# Altium integrated library All_Library1.IntLib: 123 symbols (part 1 of 2)
Pins are listed as number, name and electrical type; pins without a type are passive.

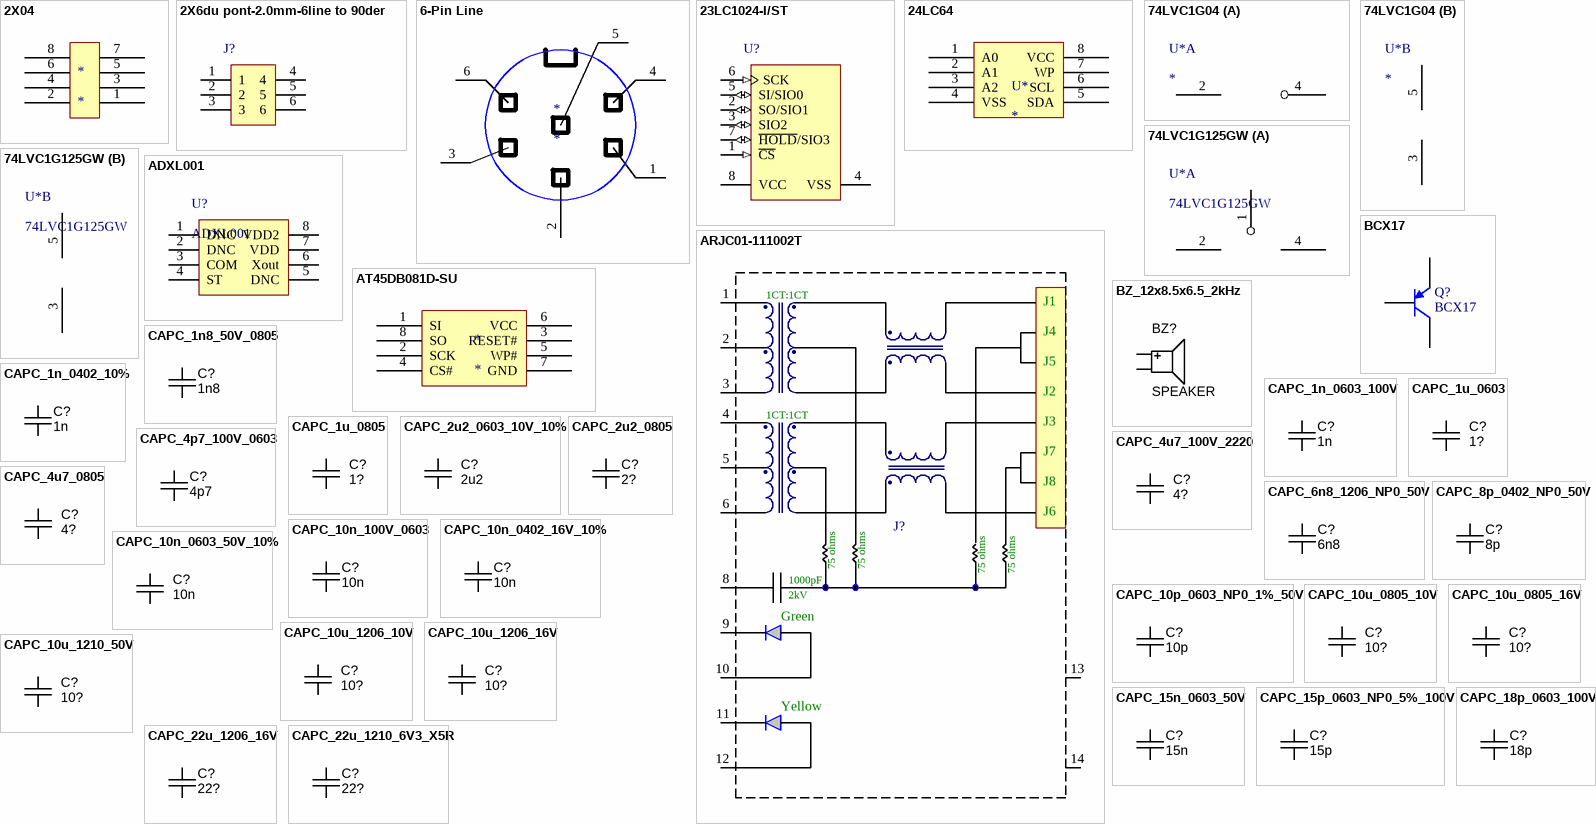
[diagram p0: symbols 2X04 to CAPC_22u_1210_6V3_X5R]

## 2X04
designator *
pins: 1, 2, 3, 4, 5, 6, 7, 8

## 2X6du pont-2.0mm-6line to 90der
designator J?  (value not drawn)
footprint HDR2X3 - duplicate-6-line 90 der
pins: 1, 2, 3, 4, 5, 6

## 6-Pin Line
designator *
footprint 6-pin line
pins: 1, 2, 3, 4, 5, 6

## 23LC1024-I/ST
designator U?
1024K bits SPI Serial SRAM with SDI and SQI Interface, 2.5 to 5.5 V, 20 MHz, -40 to 85 degC, 8-pin TSSOP (ST8), Tube; Manufacturer: Microchip; PartNumber: 23LC1024-I/ST; DatasheetVersion: Rev. A; PackageVersion: C04-086B; PackageReference: TSSOP-ST8; PackageDescription: 8-Lead Plastic Thin Shrink Small Outline, 3 x 4.4 mm Body, 0.65 mm Pitch; Supplier 1: Digi-Key; Supplier Part Number 1: 23LC1024-I/ST-ND; Supplier 2: Farnell; Supplier Part Number 2: 2212151; Supplier 3: Newark; Supplier Part Number 3: 94T8232; Supplier 4: Newark; Supplier Part Number 4: 45W1402; Supplier 5: Mouser; Supplier Part Number 5: 579-23LC1024-I/ST; Mounting Technology: Surface Mount; ComponentLink1Description: Manufacturer URL; ComponentLink1URL: http://www.microchip.com; ComponentLink2Description: Datasheet; ComponentLink2URL: http://ww1.microchip.com/downloads/en/DeviceDoc/25142A.pdf; ComponentLink3Description: Package Specification; ComponentLink3URL: http://www.microchip.com/stellent/groups/techpub_sg/documents/packagingspec/en012702.pdf; ComponentLink4Description: Product URL; ComponentLink4URL: http://www.microchip.com/23LC1024
footprint MCHP-TSSOP-ST8_N (SOP, 8-Leads, Body 4.4x3mm, Pitch 0.65mm, IPC Medium Density)
footprint MCHP-TSSOP-ST8_L (SOP, 8-Leads, Body 4.4x3mm, Pitch 0.65mm, IPC High Density)
footprint MCHP-TSSOP-ST8_M (SOP, 8-Leads, Body 4.4x3mm, Pitch 0.65mm, IPC Low Density)
pins: 1 ~{CS} (in) "Chip Select Input", 2 SO/SIO1 (io) "Serial Output/SDI/SQI Pin", 3 SIO2 (io) "SQI Pin", 4 VSS (power) "Ground", 5 SI/SIO0 (io) "Serial Input/SDI/SQI Pin", 6 SCK (in) "Serial Clock", 7 ~{HOLD}/SIO3 (io) "Hold/SQI Pin", 8 VCC (power) "Power Supply"

## 24LC64
designator U*
footprint TSSOP-ST8_M (TSOP, 8-Leads, Body 3x4.4mm, Pitch 0.65mm, IPC Low Density)
pins: 1 A0, 2 A1, 3 A2, 4 VSS, 5 SDA, 6 SCL, 7 WP, 8 VCC

## 74LVC1G04
designator U*
footprint SC70-LT5_N (SOT353, 5-Leads, Body 2x1.3mm, Pitch 0.65mm, Lead Span 2.1mm, IPC Medium Density)
part A pins: 2, 4
part B pins: 3 GND, 5 VCC

## 74LVC1G125GW
designator U*
footprint SC70-LT5_N (SOT353, 5-Leads, Body 2x1.3mm, Pitch 0.65mm, Lead Span 2.1mm, IPC Medium Density)
part A pins: 1 ~{OE}, 2 A, 4 Y
part B pins: 3 GND, 5 VCC

## ADXL001
designator U?
ADXL001-70BEZ ±70 g 8-Terminal LCC
footprint LCC8 - Special
pins: 1 DNC, 2 DNC, 3 COM, 4 ST, 5 DNC, 6 Xout, 7 VDD, 8 VDD2

## ARJC01-111002T
designator J?
10/100 Base-Tx Tap Up RJ45 with LED
footprint ARJC01-111002T
pins: 1 TD+, 2 CTD, 3 TD-, 4 RD+, 5 CRD, 6 RD-, 8 Shield, 9, 10, 11, 12, 13 GND, 14 GND
text: 1CT:1CT; J1; J4; J5; J2; J3; J7; J8; J6; 75 ohms; 1000pF; 2kV; Green; Yellow

## AT45DB081D-SU
designator *
footprint TSSOP-ST8_N (TSOP, 8-Leads, Body 3x4.4mm, Pitch 0.65mm, IPC Medium Density)
pins: 1 SI, 2 SCK, 3 RESET#, 4 CS#, 5 WP#, 6 VCC, 7 GND, 8 SO

## BCX17
designator Q?
PNP General Purpose Transistors; Published: 8-Jun-2000; LatestRevisionDate: 15-Jan-2003; LatestRevisionNote: PCB Footprint 'BCY-W3/D4.7' replaced; DatasheetVersion: 1997; PackageVersion: Sep-1998; PackageReference: TO-92A; Publisher: Altium Limited; PackageDescription: TO, Flat Index; 3 In-Line, Axial Leads; Body Dia. 4.5mm; Leads 0.51 x 0.48 mm (max); ComponentLink1Description: Manufacturer Link; ComponentLink1URL: http://www.fairchildsemi.com/; ComponentLink2Description: Datasheet; ComponentLink2URL: http://www.fairchildsemi.com/ds/2N%2F2N3906.pdf
footprint SOT23-3N (SOT23, 3-Leads, Body 2.9x1.3mm, Pitch 0.95mm, Lead Span 2.5mm, IPC Medium Density)
pins: 1 B, 2 E, 3 C

## BZ_12x8.5x6.5_2kHz
designator BZ?, comment Manufacturer Part Number 1: SPEAKER  (hidden comment: Alternate part: 3100-932)
Speaker, Magnetic Transducer; Manufacturer 1: CUI Inc; Ratings: 2048 ?00 Hz; Package / Case: 6.5mm pitch; Material: Noryl SE1-J; Supplier 1: Digi-Key; Supplier Part Number 1: 102-1152-ND
footprint BUZZER_12.0X8.5MM
pins: 1 Positive, 2 Negative

## CAPC_1n8_50V_0805
designator C?, comment value 1n8  (hidden comment: approved sub OK)
Capacitor SMD Cer 1.8nF 10% 50V X7R 0805; Manufacturer 1: AVX Corporation; Manufacturer Part Number 1: 08055C182KAT2A; Tolerance: ?0%; Ratings: 50V; X7R; Operating Temperature: -55蚓 ~ 125蚓; Package / Case: 0805 (2012 metric); Supplier 1: Digi-Key; Supplier Part Number 1: 478-1374-1-ND
footprint CAPC2012N (Chip Capacitor, Body 2.0x1.2mm, 0805, IPC Medium Density)
pins: 1, 2

## CAPC_1n_0402_10%
designator C?, comment 1n
Capacitor SMD Cer 1nF 10% 16V X7R 0402; Manufacturer 1: AVX Corporation; Manufacturer Part Number 1: 0402YC102KAT2A; Tolerance: ?0%; Ratings: 16V; X7R; Operating Temperature: -55蚓 ~ 125蚓; Package / Case: 0402 (1005 Metric); Size / Dimension: 0.039" L x 0.020" W (1.00mm x 0.50mm); Manufacturer 2: Yageo; Manufacturer Part Number 2: CC0402KRX7R7BB102; Supplier 1: Digi-Key; Supplier Part Number 1: 478-6197-1-ND; ComponentLink1URL: http://www.avx.com/docs/Catalogs/cx7r.pdf; ComponentLink1Description: http://www.avx.com/docs/Catalogs/cx7r.pdf; Supplier 2: Digi-Key; Supplier Part Number 2: 311-1352-1-ND; ComponentLink2URL: http://www.yageo.com/documents/recent/UPY-GPHC_X7R_6.3V-to-50V_8.pdf; ComponentLink2Description: http://www.yageo.com/documents/recent/UPY-GPHC_X7R_6.3V-to-50V_8.pdf; Value: 1n
footprint CAPC1005N (Chip Capacitor, Body 1.0x0.5mm, 0402, IPC Medium Density)
footprint CAPC1005L (Chip Capacitor, Body 1.0x0.5mm, IPC High Density)
pins: 1, 2

## CAPC_1n_0603_100V
designator C?, comment value 1n  (hidden comment: approved sub OK)
Capacitor SMD Cer 1nF 10% 100V X7R 0603; Manufacturer 1: Murata Electronics North America; Manufacturer Part Number 1: GCM188R72A102KA37D; Tolerance: ?0%; Ratings: 100V; X7R; Material: ceramic; Package / Case: 0603 (1608 metric); Supplier 1: Digi-Key; Supplier Part Number 1: 490-4780-1-ND; Operating Temperature: -55蚓 ~ 125蚓; Size / Dimension: 0.063" L x 0.031" W (1.60mm x 0.80mm); Thickness (Max): 0.035" (0.90mm); ComponentLink1URL: http://search.murata.co.jp/Ceramy/image/img/PDF/ENG/GCM188R72A102KA37.pdf; ComponentLink1Description: http://search.murata.co.jp/Ceramy/image/img/PDF/ENG/GCM188R72A102KA37.pdf
footprint CAPC1608N (Chip Capacitor, Body 1.6x0.8mm, 0603, IPC Medium Density)
pins: 1, 2

## CAPC_1u_0603
designator C?, comment value 1?  (hidden comment: approved sub OK)
Capacitor SMD Cer 1uF 10% 16V X7R 0603; Manufacturer 1: TDK Corporation; Manufacturer Part Number 1: C1608X7R1C105K; Tolerance: ?0%; Ratings: 16V; X7R; Material: ceramic; Package / Case: 0603 (1608 metric); Supplier 1: Digi-Key; Supplier Part Number 1: 445-1604-1-ND
footprint CAPC1608N (Chip Capacitor, Body 1.6x0.8mm, IPC Medium Density)
pins: 1, 2

## CAPC_1u_0805
designator C?, comment value 1?  (hidden comment: approved sub OK)
Capacitor SMD Cer 1uF 10% 16V X7R 0805; Manufacturer 1: TDK Corporation; Manufacturer Part Number 1: C2012X7R1C105K/1.25; Tolerance: ?0%; Ratings: 16V; X7R; Material: ceramic; Package / Case: 0805 (2012 metric); Supplier 1: Digi-Key; Supplier Part Number 1: 445-1358-1-ND
footprint CAPC2012N (Chip Capacitor, Body 2.0x1.2mm, 0805, IPC Medium Density)
pins: 1, 2

## CAPC_2u2_0603_10V_10%
designator C?, comment value 2u2  (hidden comment: approved sub OK)
Capacitor SMD Cer 2.2uF 10% 10V X5R 0603; Manufacturer 1: AVX Corporation; Manufacturer Part Number 1: 0603ZD225KAT2A; Tolerance: ?0%; Ratings: 10V; X5R; Material: ceramic; Package / Case: 0603 (1608 metric); Supplier 1: Digi-Key; Supplier Part Number 1: 478-6212-1-ND; ComponentLink1URL: http://www.avx.com/docs/Catalogs/cx5r.pdf; ComponentLink1Description: http://www.avx.com/docs/Catalogs/cx5r.pdf
footprint CAPC1608N (Chip Capacitor, Body 1.6x0.8mm, 0603, IPC Medium Density)
pins: 1, 2

## CAPC_2u2_0805
designator C?, comment value 2?  (hidden comment: approved sub OK)
Capacitor SMD Cer 2.2uF 10% 16V X7R 0805; Manufacturer 1: Kemet; Manufacturer Part Number 1: C0805C225K4RACTU; Tolerance: ?0%; Ratings: 16V; X7R; Supplier 1: Digi-Key; Supplier Part Number 1: 399-3523-1-ND; Package / Case: 0805 (2012 metric)
footprint CAPC2012N (Chip Capacitor, Body 2.0x1.2mm, 0805, IPC Medium Density)
pins: 1, 2

## CAPC_4p7_100V_0603
designator C?, comment value 4p7  (hidden comment: approved sub OK)
Capacitor SMD Cer 4.7pF ?.25pF 100V NP0 0603; Manufacturer 1: AVX Corporation; Manufacturer Part Number 1: 06031A4R7CAT2A; Ratings: 100V; NP0; Tolerance: ?.25pF; Operating Temperature: -55蚓 ~ 125蚓; Package / Case: 0603 (1608 metric); Supplier 1: Digi-Key; Supplier Part Number 1: 478-4992-1-ND
footprint CAPC1608N (Chip Capacitor, Body 1.6x0.8mm, 0603, IPC Medium Density)
pins: 1, 2

## CAPC_4u7_100V_2220
designator C?, comment value 4?  (hidden comment: approved sub OK)
Capacitor SMD Cer 4.7uF 10% 100V X7R 2220; Manufacturer: TDK Corporation; Manufacturer Part Number: C5750X7R2A475K; Tolerance: ?0%; Ratings: 100V; X7R; Material: ceramic; Package / Case: 2220 (5750 Metric); Supplier 1: Digi-Key; Supplier Part Number 1: 445-4526-1-ND
footprint CAPC5750N (Chip Capacitor, Body 5.7x5.0mm, 2220, IPC Medium Density)
pins: 1, 2

## CAPC_4u7_0805
designator C?, comment value 4?  (hidden comment: approved sub OK)
Capacitor SMD Cer 4.7uF 10% 16V X5R 0805; Manufacturer 1: Taiyo Yuden; Manufacturer Part Number 1: EMK212BJ475KG-T; Tolerance: ?0%; Ratings: 16V; X5R; Material: ceramic; Package / Case: 0805 (2012 Metric); Supplier 1: Digi-Key; Supplier Part Number 1: 587-1294-1-ND; Operating Temperature: -55蚓 ~ 85蚓; Size / Dimension: 0.079" L x 0.049" W (2.00mm x 1.25mm); Thickness (Max): 0.053" (1.35mm); ComponentLink1URL: http://www.yuden.co.jp/productdata/catalog/en/mlcc01_e.pdf; ComponentLink1Description: http://www.yuden.co.jp/productdata/catalog/en/mlcc01_e.pdf
footprint CAPC2012N (Chip Capacitor, Body 2.0x1.2mm, 0805, IPC Medium Density)
pins: 1, 2

## CAPC_6n8_1206_NP0_50V
designator C?, comment 6n8
Capacitor SMD Cer 6.8nF 5% 50V NP0 1206; Manufacturer 1: TDK Corporation; Manufacturer Part Number 1: C3216C0G1H682J/0.60; Tolerance: ?%; Ratings: 50V; NP0; Material: Ceramic NP0; Package / Case: 1206 (3216 metric); Supplier 1: Digi-Key; Supplier Part Number 1: 445-4005-1-ND; Value: 6n8
footprint CAPC3216N (Chip Capacitor, Body 3.2x1.6mm, 1206, IPC Medium Density)
pins: 1, 2

## CAPC_8p_0402_NP0_50V
designator C?, comment 8p
Capacitor SMD Cer 8pF ?.5pF 50V NP0 0402; Manufacturer 1: Murata Electronics North America; Manufacturer Part Number 1: GRM1555C1H8R0DA01D; Ratings: 50V; NP0; Tolerance: ?.5pF; Operating Temperature: -55蚓 ~ 125蚓; Package / Case: 0402 (1005 Metric); Size / Dimension: 0.039" L x 0.020" W (1.00mm x 0.50mm); Supplier 1: Digi-Key; Supplier Part Number 1: 490-5867-1-ND; Supplier 2: Digi-Key; Supplier Part Number 2: 04025A8R0JAT2A-ND; Manufacturer 2: AVX Corporation; Manufacturer Part Number 2: 04025A8R0JAT2A; ComponentLink2URL: http://www.avx.com/docs/Catalogs/ccog.pdf; ComponentLink2Description: http://www.avx.com/docs/Catalogs/ccog.pdf; ComponentLink1URL: http://search.murata.co.jp/Ceramy/image/img/w_hinm/L0005E.pdf; ComponentLink1Description: http://search.murata.co.jp/Ceramy/image/img/w_hinm/L0005E.pdf; Value: 8p
footprint CAPC1005N (Chip Capacitor, Body 1.0x0.5mm, 0402, IPC Medium Density)
pins: 1, 2

## CAPC_10n_100V_0603
designator C?, comment value 10n  (hidden comment: approved sub OK)
Capacitor SMD Cer 10nF 10% 100V X7R 0603; Manufacturer: Murata Electronics North America; Manufacturer Part Number: GCM188R72A103KA37D; Tolerance: ?0%; Ratings: 100V; X7R; Material: ceramic; Package / Case: 0603 (1608 metric); Supplier 1: Digi-Key; Supplier Part Number 1: 490-4781-1-ND
footprint CAPC1608N (Chip Capacitor, Body 1.6x0.8mm, 0603, IPC Medium Density)
pins: 1, 2

## CAPC_10n_0402_16V_10%
designator C?, comment 10n
Capacitor SMD Cer 10nF 10% 16V X7R 0402; Manufacturer 1: AVX Corporation; Manufacturer Part Number 1: 0402YC103KAT2A; Tolerance: ?0%; Ratings: 16V; X7R; Operating Temperature: -55蚓 ~ 125蚓; Package / Case: 0402 (1005 Metric); Size / Dimension: 0.039" L x 0.020" W (1.00mm x 0.50mm); Manufacturer 2: Yageo; Manufacturer Part Number 2: CC0402KRX7R7BB103; Supplier 1: Digi-Key; Supplier Part Number 1: 478-1114-1-ND; ComponentLink1URL: http://www.avx.com/docs/Catalogs/cx7r.pdf; ComponentLink1Description: http://www.avx.com/docs/Catalogs/cx7r.pdf; Supplier 2: Digi-Key; Supplier Part Number 2: 311-1042-1-ND; ComponentLink2URL: http://www.yageo.com/documents/recent/UPY-GPHC_X7R_6.3V-to-50V_8.pdf; ComponentLink2Description: http://www.yageo.com/documents/recent/UPY-GPHC_X7R_6.3V-to-50V_8.pdf; Value: 10n
footprint CAPC1005N (Chip Capacitor, Body 1.0x0.5mm, 0402, IPC Medium Density)
footprint CAPC1005L (Chip Capacitor, Body 1.0x0.5mm, IPC High Density)
pins: 1, 2

## CAPC_10n_0603_50V_10%
designator C?, comment value 10n  (hidden comment: approved sub OK)
Capacitor SMD Cer 10nF 10% 50V X7R 0603; Manufacturer 1: TDK Corporation; Manufacturer Part Number 1: C1608X7R1H103K; Tolerance: ?0%; Ratings: 50V; X7R; Material: ceramic; Package / Case: 0603 (1608 metric); Supplier 1: Digi-Key; Supplier Part Number 1: 445-1311-1-ND
footprint CAPC1608N (Chip Capacitor, Body 1.6x0.8mm, 0603, IPC Medium Density)
pins: 1, 2

## CAPC_10p_0603_NP0_1%_50V
designator C?, comment 10p
Capacitor SMD Cer 10pF 5% 50V NP0 0603; Manufacturer 1: Murata Electronics North America; Manufacturer Part Number 1: GRM1885C1H100FA01J; Tolerance: ?%; Ratings: 50V; NP0; Operating Temperature: -55蚓 ~ 125蚓; Package / Case: 0603 (1608 Metric); Size / Dimension: 0.063" L x 0.032" W (1.60mm x 0.81mm); Thickness (Max): 0.035" (0.90mm); Supplier 1: Digi-Key; Supplier Part Number 1: GRM1885C1H100FA01J-ND; Value: 10p
footprint CAPC1608N (Chip Capacitor, Body 1.6x0.8mm, 0603, IPC Medium Density)
pins: 1, 2

## CAPC_10u_0805_10V
designator C?, comment value 10?  (hidden comment: approved sub OK)
Capacitor SMD Cer 10uF 10% 10V X5R 0805; Manufacturer 1: AVX Corporation; Manufacturer Part Number 1: 0805ZD106KAT2A; Tolerance: ?0%; Ratings: 10V; X5R; Material: ceramic; Package / Case: 0805 (2012 metric); Manufacturer 2: Kemet; Manufacturer Part Number 2: C0805C106K8PACTU; Supplier 1: Digi-Key; Supplier Part Number 1: 478-5167-1-ND; ComponentLink1URL: http://www.avx.com/docs/Catalogs/cx5r.pdf; ComponentLink1Description: http://www.avx.com/docs/Catalogs/cx5r.pdf; ComponentLink2URL: http://www.kemet.com/datasheets&C0805C106K8PACTU; ComponentLink2Description: http://www.kemet.com/datasheets&C0805C106K8PACTU; Supplier 2: Digi-Key; Supplier Part Number 2: 399-4925-1-ND
footprint CAPC2012N (Chip Capacitor, Body 2.0x1.2mm, 0805, IPC Medium Density)
pins: 1, 2

## CAPC_10u_0805_16V
designator C?, comment value 10?  (hidden comment: approved sub OK)
Capacitor SMD Cer 10uF 10% 16V X7R 0805; Manufacturer 1: Samsung; Manufacturer Part Number 1: CL21B106KBN; Tolerance: ?0%; Ratings: 16V; X7R; Material: ceramic; Package / Case: 0805 (2012 metric)
footprint CAPC1608N (Chip Capacitor, Body 1.6x0.8mm, IPC Medium Density)
footprint CAPC3216N (Chip Capacitor, Body 3.2x1.6mm, IPC Medium Density)
footprint CAPC2012N (Chip Capacitor, Body 2.0x1.2mm, 0805, IPC Medium Density)
pins: 1, 2

## CAPC_10u_1206_10V
designator C?, comment value 10?  (hidden comment: approved sub OK)
Capacitor SMD Cer 10uF 10% 10V X5R 1206; Manufacturer 1: KEMET; Manufacturer Part Number 1: C1206C106K8PACTU; Tolerance: ?0%; Ratings: 10V; X5R; Material: ceramic; Package / Case: 1206 (3216 metric); Supplier 1: Digi-Key; Supplier Part Number 1: C1206C106K8PACTU-ND
footprint CAPC3216N (Chip Capacitor, Body 3.2x1.6mm, 1206, IPC Medium Density)
pins: 1, 2

## CAPC_10u_1206_16V
designator C?, comment value 10?  (hidden comment: approved sub OK)
Capacitor SMD Cer 10uF 10% 16V X7R 1206; Manufacturer 1: Kemet; Manufacturer Part Number 1: C1206C106K4RACTU; Tolerance: ?0%; Ratings: 16V; X7R; Material: ceramic; Package / Case: 1206 (3216 metric); Supplier 1: Digi-Key; Supplier Part Number 1: 399-3525-1-ND
footprint CAPC3216N (Chip Capacitor, Body 3.2x1.6mm, 1206, IPC Medium Density)
pins: 1, 2

## CAPC_10u_1210_50V
designator C?, comment 10?
Capacitor SMD Cer 10uF 20% 16V X5R 1210; Manufacturer 1: Taiyo Yuden; Manufacturer Part Number 1: UMK325BJ106MM-T; Tolerance: ?0%; Ratings: 50V; X5R; Material: ceramic; Package / Case: 1210 (3225 Metric); Size / Dimension: 0.126" L x 0.098" W (3.20mm x 2.50mm); Supplier 1: Digi-Key; Supplier Part Number 1: 587-2225-1-ND; Value: 10?
footprint CAPC3225N (Chip Capacitor, Body 3.2x2.5mm, 1210, IPC Medium Density)
pins: 1, 2

## CAPC_15n_0603_50V
designator C?, comment value 15n  (hidden comment: approved sub OK)
Capacitor SMD Cer 15nF 10% 50V X7R 0603; Manufacturer Part Number 1: GRM188R71H153KA01D; Manufacturer 1: Murata Electronics North America; Tolerance: ?0%; Ratings: 50V; X7R; Operating Temperature: -55蚓 ~ 125蚓; Package / Case: 0603 (1608 metric); Supplier 1: Digi-Key; Supplier Part Number 1: 490-1514-1-ND
footprint CAPC1608N (Chip Capacitor, Body 1.6x0.8mm, 0603, IPC Medium Density)
pins: 1, 2

## CAPC_15p_0603_NP0_5%_100V
designator C?, comment 15p
Capacitor SMD Cer 15pF 5% 100V NP0 0603; Manufacturer 1: AVX Corporation; Manufacturer Part Number 1: 06031A150JAT2A; Tolerance: ?%; Ratings: 100V; NP0; Operating Temperature: -55蚓 ~ 125蚓; Package / Case: 0603 (1608 Metric); Size / Dimension: 0.063" L x 0.032" W (1.60mm x 0.81mm); Thickness (Max): 0.035" (0.90mm); Supplier 1: Digi-Key; Supplier Part Number 1: 478-1141-1-ND; Mounting Type: Surface Mount, MLCC; ComponentLink1URL: http://www.avx.com/docs/Catalogs/ccog.pdf; ComponentLink1Description: http://www.avx.com/docs/Catalogs/ccog.pdf; Value: 15p
footprint CAPC1608N (Chip Capacitor, Body 1.6x0.8mm, 0603, IPC Medium Density)
pins: 1, 2

## CAPC_18p_0603_100V
designator C?, comment 18p
Capacitor SMD Cer 18pF 2% 100V NP0 0603; Manufacturer 1: AVX Corporation; Manufacturer Part Number 1: 06031A180GAT2A; Tolerance: ?%; Ratings: 100V; NP0; Operating Temperature: -55蚓 ~ 125蚓; Package / Case: 0603 (1608 Metric); Supplier 1: Digi-Key; Supplier Part Number 1: 478-6025-1-ND; Size / Dimension: 0.063" L x 0.032" W (1.60mm x 0.81mm); Thickness (Max): 0.035" (0.90mm); ComponentLink1URL: http://www.avx.com/docs/Catalogs/ccog.pdf; ComponentLink1Description: http://www.avx.com/docs/Catalogs/ccog.pdf; Value: 18p
footprint CAPC1608N (Chip Capacitor, Body 1.6x0.8mm, 0603, IPC Medium Density)
pins: 1, 2

## CAPC_22u_1206_16V
designator C?, comment value 22?  (hidden comment: approved sub OK)
Capacitor SMD Cer 22uF 10% 16V X7R 1206; Manufacturer 1: Murata; Manufacturer Part Number 1: GRM319R71C224KA01D; Tolerance: ?0%; Ratings: 16V; X7R; Package / Case: 1206 (3216 metric); Supplier 1: Mouser; Supplier Part Number 1: 81-GRM426X224K016D
footprint CAPC3216N (Chip Capacitor, Body 3.2x1.6mm, 1206, IPC Medium Density)
pins: 1, 2

## CAPC_22u_1210_6V3_X5R
designator C?, comment value 22?  (hidden comment: approved sub OK)
Capacitor SMD Cer 22uF 20% 6.3V X5R 1210; Manufacturer 1: TDK Corporation; Manufacturer Part Number 1: C3225X5R0J226M/2.00; Tolerance: ?0%; Ratings: 6.3V; X5R; Voltage - Rated: 6V3; Package / Case: 1210 (3225 metric); Supplier 1: Digi-Key; Supplier Part Number 1: 445-1595-1-ND; Mounting Type: Surface Mount, MLCC; Operating Temperature: -55蚓 ~ 85蚓; Thickness (Max): 0.087" (2.20mm); ComponentLink1URL: http://www.tdk.com/pdf/general_B11.pdf; ComponentLink1Description: http://www.tdk.com/pdf/general_B11.pdf
footprint CAPC3225N (Chip Capacitor, Body 3.2x2.5mm, 1210, IPC Medium Density)
pins: 1, 2

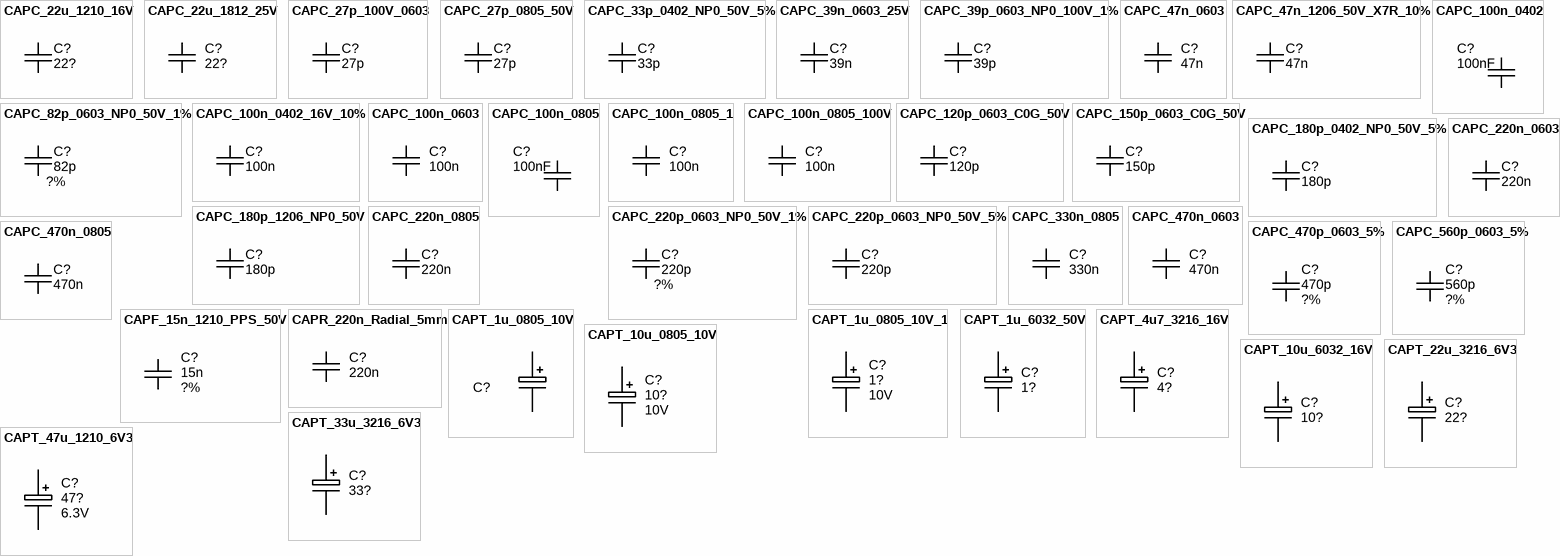
[diagram p1: symbols CAPC_22u_1210_16V to CAPT_47u_1210_6V3]

## CAPC_22u_1210_16V
designator C?, comment value 22?  (hidden comment: approved sub OK)
Capacitor SMD Cer 22uF 20% 16V X7R 1210; Manufacturer: TDK Corporation; Manufacturer Part Number: C3225X7R1C226K; Tolerance: ?0%; Ratings: 16V; X7R; Package / Case: 1210 (3225 metric); Supplier 1: Digi-Key; Supplier Part Number 1: 445-3945-2-ND
footprint CAPC3225N (Chip Capacitor, Body 3.2x2.5mm, 1210, IPC Medium Density)
pins: 1, 2

## CAPC_22u_1812_25V
designator C?, comment value 22?  (hidden comment: approved sub OK)
Capacitor SMD Cer 22uF 20% 25V X5R 1812; Manufacturer 1: TDK Corporation; Manufacturer Part Number 1: C4532X5R1E226M; Tolerance: ?0%; Ratings: 25V; X5R; Material: ceramic; Package / Case: 1812 (4532 metric); Supplier 1: Digi-Key; Supplier Part Number 1: 445-1444-1-ND
footprint CAPC4532N (Chip Capacitor, Body 4.5x3.2mm, 1812, IPC Medium Density)
pins: 1, 2

## CAPC_27p_100V_0603
designator C?, comment 27p
Capacitor SMD Cer 27pF 1% 100V NP0 0603; Manufacturer 1: AVX Corporation; Manufacturer Part Number 1: 06031A270FAT2A; Tolerance: ?%; Ratings: 100V; NP0; Operating Temperature: -55蚓 ~ 125蚓; Package / Case: 0603 (1608 Metric); Supplier 1: Digi-Key; Supplier Part Number 1: 478-3681-1-ND; Value: 27p
footprint CAPC1608N (Chip Capacitor, Body 1.6x0.8mm, 0603, IPC Medium Density)
pins: 1, 2

## CAPC_27p_0805_50V
designator C?, comment value 27p  (hidden comment: approved sub OK)
Capacitor SMD Cer 27pF 5% 50V X7R 0805; Manufacturer 1: Panasonic - ECG; Manufacturer Part Number 1: ECJ-2VC1H270J; Tolerance: ?%; Ratings: 50V; X7R; Operating Temperature: -55蚓 ~ 125蚓; Package / Case: 0805 (2012 metric); Supplier 1: Digi-Key; Supplier Part Number 1: PCC270CGCT-ND
footprint CAPC2012N (Chip Capacitor, Body 2.0x1.2mm, 0805, IPC Medium Density)
pins: 1, 2

## CAPC_33p_0402_NP0_50V_5%
designator C?, comment 33p
Capacitor SMD Cer 33pF 5% 50V NP0 0402; Manufacturer 1: AVX Corporation; Manufacturer Part Number 1: 04025A330JAT2A; Tolerance: ?%; Ratings: 50V; NP0; Operating Temperature: -55蚓 ~ 125蚓; Package / Case: 0402 (1005 Metric); Size / Dimension: 0.039" L x 0.020" W (1.00mm x 0.50mm); Manufacturer 2: Yageo; Manufacturer Part Number 2: CC0402JRNPO9BN330; Thickness (Max): 0.022" (0.55mm); Supplier 1: Digi-Key; Supplier Part Number 1: 478-1076-1-ND; ComponentLink1URL: http://www.avx.com/docs/Catalogs/ccog.pdf; ComponentLink1Description: http://www.avx.com/docs/Catalogs/ccog.pdf; ComponentLink2URL: http://www.yageo.com/documents/recent/UPY-GP_NP0_16V-to-50V_8.pdf; ComponentLink2Description: http://www.yageo.com/documents/recent/UPY-GP_NP0_16V-to-50V_8.pdf; Supplier 2: Digi-Key; Supplier Part Number 2: 311-1020-1-ND; Value: 33p
footprint CAPC1005N (Chip Capacitor, Body 1.0x0.5mm, 0402, IPC Medium Density)
pins: 1, 2

## CAPC_39n_0603_25V
designator C?, comment value 39n  (hidden comment: approved sub OK)
Capacitor SMD Cer 39nF 10% 25V X7R 0603; Manufacturer 1: Kemet; Manufacturer Part Number 1: C0603C393K3RACTU; Tolerance: ?0%; Ratings: 100V; X7R; Material: ceramic; Package / Case: 0603 (1608 Metric); Supplier 1: Digi-Key; Operating Temperature: -55蚓 ~ 125蚓; Size / Dimension: 0.063" L x 0.031" W (1.60mm x 0.80mm); Thickness (Max): 0.035" (0.90mm); Temperature Coefficient: X7R; Voltage - Rated: 25V; Supplier Part Number 1: 399-7914-1-ND
footprint CAPC1608N (Chip Capacitor, Body 1.6x0.8mm, 0603, IPC Medium Density)
pins: 1, 2

## CAPC_39p_0603_NP0_100V_1%
designator C?, comment 39p
Capacitor SMD Cer 39pF 1% 100V NP0 0603; Manufacturer 1: AVX Corporation; Manufacturer Part Number 1: 06031A390FAT2A; Tolerance: ?%; Ratings: 100V; NP0; Operating Temperature: -55蚓 ~ 125蚓; Package / Case: 0603 (1608 Metric); Supplier 1: Digi-Key; Supplier Part Number 1: 478-5773-1-ND; Value: 39p
footprint CAPC1608N (Chip Capacitor, Body 1.6x0.8mm, 0603, IPC Medium Density)
pins: 1, 2

## CAPC_47n_0603
designator C?, comment 47n
Capacitor SMD Cer 47nF 10% 50V X7R 0603; Manufacturer 1: Samsung; Manufacturer Part Number 1: CL10B473KBN; Tolerance: ?0%; Ratings: 50V; X7R; Material: ceramic; Package / Case: 0603 (1608 metric); Value: 47n
footprint CAPC1608N (Chip Capacitor, Body 1.6x0.8mm, IPC Medium Density)
footprint CAPC3216N (Chip Capacitor, Body 3.2x1.6mm, IPC Medium Density)
footprint CAPC2012N (Chip Capacitor, Body 2.0x1.2mm, IPC Medium Density)
pins: 1, 2

## CAPC_47n_1206_50V_X7R_10%
designator C?, comment 47n
Capacitor SMD Cer 47nF 10% 50V 1206; Manufacturer 1: Yageo; Manufacturer Part Number 1: CC1206KRX7R9BB473; Ratings: 50V; X7R; Tolerance: ?0%; Package / Case: 1206 (3216 Metric); Operating Temperature: -55蚓 ~ 125蚓; Size / Dimension: 0.126" L x 0.063" W (3.20mm x 1.60mm); Supplier 1: Digi-Key; Voltage - Rated: 50V; Supplier Part Number 1: 311-1178-1-ND; Value: 47n
footprint CAPC3216N (Chip Capacitor, Body 3.2x1.6mm, 1206, IPC Medium Density)
pins: 1, 2

## CAPC_82p_0603_NP0_50V_1%
designator C?, comment Tolerance: ?%  (hidden comment: 82p)
Capacitor SMD Cer 82pF 1% 50V NP0 0603; Manufacturer 1: Kemet; Manufacturer Part Number 1: C0603C820F5GACTU; Ratings: 50V; NP0; Operating Temperature: -55蚓 ~ 125蚓; Package / Case: 0603 (1608 Metric); Size / Dimension: 0.063" L x 0.031" W (1.60mm x 0.80mm); Thickness (Max): 0.034" (0.87mm); Supplier 1: Digi-Key; Supplier Part Number 1: 399-7959-1-ND; ComponentLink1URL: http://www.kemet.com/datasheets&C0603C820F5GACTU; ComponentLink1Description: http://www.kemet.com/datasheets&C0603C820F5GACTU; Value: 82p
footprint CAPC1608N (Chip Capacitor, Body 1.6x0.8mm, 0603, IPC Medium Density)
pins: 1, 2

## CAPC_100n_0402
designator C?, comment value 100nF  (hidden comment: approved sub OK)
Capacitor SMD Cer 100nF 10% 50V X7R 0805; Manufacturer 1: Kemet; Manufacturer Part Number 1: C0805C104K5RACTU; Tolerance: ?0%; Ratings: 50V; X7R; Material: ceramic; Package / Case: 0805 (2012 metric); Supplier 1: Digi-Key; Supplier Part Number 1: 399-1170-1-ND
footprint CAPC1005N (Chip Capacitor, Body 1.0x0.5mm, 0402, IPC Medium Density)
footprint CAPC1005L (Chip Capacitor, Body 1.0x0.5mm, IPC High Density)
pins: 1, 2

## CAPC_100n_0402_16V_10%
designator C?, comment 100n
Capacitor SMD Cer 100nF 10% 16V X5R 0402; Manufacturer 1: AVX Corporation; Manufacturer Part Number 1: 0402YD104KAT2A; Tolerance: ?0%; Ratings: 16V; X7R; Operating Temperature: -55蚓 ~ 125蚓; Package / Case: 0402 (1005 Metric); Size / Dimension: 0.039" L x 0.020" W (1.00mm x 0.50mm); Supplier 1: Digi-Key; Supplier Part Number 1: 478-1126-1-ND; ComponentLink1URL: http://www.avx.com/docs/Catalogs/cx5r.pdf; ComponentLink1Description: http://www.avx.com/docs/Catalogs/cx5r.pdf; Supplier 2: Digi-Key; Supplier Part Number 2: 311-1347-1-ND; Manufacturer 2: Yageo; Manufacturer Part Number 2: CC0402KRX5R7BB104; ComponentLink2URL: http://www.yageo.com/documents/recent/UPY-GPHC_X5R_4V-to-50V_12.pdf; ComponentLink2Description: http://www.yageo.com/documents/recent/UPY-GPHC_X5R_4V-to-50V_12.pdf; Value: 100n
footprint CAPC1005N (Chip Capacitor, Body 1.0x0.5mm, 0402, IPC Medium Density)
pins: 1, 2

## CAPC_100n_0603
designator C?, comment value 100n  (hidden comment: approved sub OK)
Capacitor SMD Cer 100nF 10% 50V X7R 0603; Manufacturer 1: AVX Corporation; Manufacturer Part Number 1: 06035C104KAT2A; Tolerance: ?0%; Ratings: 50V; X7R; Material: ceramic; Manufacturer 2: TDK Corporation; Manufacturer Part Number 2: C1608X7R1H104K; Package / Case: 0603 (1608 Metric); Supplier 1: Digi-Key; Supplier Part Number 1: 478-5052-1-ND; ComponentLink1URL: http://www.avx.com/docs/Catalogs/cx7r.pdf; ComponentLink1Description: http://www.avx.com/docs/Catalogs/cx7r.pdf; Supplier 2: Digi-Key; Supplier Part Number 2: 445-1314-1-ND; ComponentLink2URL: http://product.tdk.com/capacitor/mlcc/en/documents/mlcc_commercial_general_en.pdf; ComponentLink2Description: http://product.tdk.com/capacitor/mlcc/en/documents/mlcc_commercial_general_en.pdf
footprint CAPC1608N (Chip Capacitor, Body 1.6x0.8mm, 0603, IPC Medium Density)
pins: 1, 2

## CAPC_100n_0805
designator C?, comment value 100nF  (hidden comment: approved sub OK)
Capacitor SMD Cer 100nF 10% 50V X7R 0805; Manufacturer 1: Kemet; Manufacturer Part Number 1: C0805C104K5RACTU; Tolerance: ?0%; Ratings: 50V; X7R; Material: ceramic; Package / Case: 0805 (2012 metric); Supplier 1: Digi-Key; Supplier Part Number 1: 399-1170-1-ND
footprint CAPC2012N (Chip Capacitor, Body 2.0x1.2mm, IPC Medium Density)
pins: 1, 2

## CAPC_100n_0805_1
designator C?, comment value 100n  (hidden comment: approved sub OK)
Capacitor SMD Cer 100nF 10% 50V X7R 0805; Manufacturer 1: Kemet; Manufacturer Part Number 1: C0805C104K5RACTU; Tolerance: ?0%; Ratings: 50V; X7R; Material: ceramic; Package / Case: 0805 (2012 metric); Supplier 1: Digi-Key; Supplier Part Number 1: 399-1170-1-ND
footprint CAPC1608N (Chip Capacitor, Body 1.6x0.8mm, IPC Medium Density)
footprint CAPC3216N (Chip Capacitor, Body 3.2x1.6mm, IPC Medium Density)
footprint CAPC2012N (Chip Capacitor, Body 2.0x1.2mm, IPC Medium Density)
pins: 1, 2

## CAPC_100n_0805_100V
designator C?, comment value 100n  (hidden comment: approved sub OK)
Capacitor SMD Cer 100nF 10% 100V X7R 0805; Manufacturer 1: TDK Corporation; Manufacturer Part Number 1: C2012X7R2A104K; Tolerance: ?0%; Ratings: 100V; X7R; Material: ceramic; Package / Case: 0805; Supplier 1: Digi-Key; Supplier Part Number 1: 445-1418-1-ND
footprint CAPC2012N (Chip Capacitor, Body 2.0x1.2mm, IPC Medium Density)
pins: 1, 2

## CAPC_120p_0603_C0G_50V
designator C?, comment 120p
Capacitor SMD Cer 120pF 10% 50V C0G 0603; Manufacturer 1: Kemet; Manufacturer Part Number 1: C0603C121K5GACTU; Tolerance: ?0%; Ratings: 50V; C0G; Operating Temperature: -55蚓 ~ 125蚓; Package / Case: 0603 (1608 Metric); Supplier 1: Mouser; Supplier Part Number 1: 80-C0603C121K5G; Value: 120p
footprint CAPC1608N (Chip Capacitor, Body 1.6x0.8mm, 0603, IPC Medium Density)
pins: 1, 2

## CAPC_150p_0603_C0G_50V
designator C?, comment 150p
Capacitor SMD Cer 150pF 10% 50V C0G 0603; Manufacturer 1: Kemet; Manufacturer Part Number 1: C0603C151K5GACTU; Tolerance: ?0%; Ratings: 50V; C0G; Operating Temperature: -55蚓 ~ 125蚓; Package / Case: 0603 (1608 Metric); Supplier 1: Mouser; Supplier Part Number 1: 80-C0603C151K5G; Value: 150p
footprint CAPC1608N (Chip Capacitor, Body 1.6x0.8mm, 0603, IPC Medium Density)
pins: 1, 2

## CAPC_180p_0402_NP0_50V_5%
designator C?, comment 180p
Capacitor SMD Cer 180pF 5% 50V NP0 0402; Manufacturer 1: AVX Corporation; Manufacturer Part Number 1: 04025A181JAT2A; Tolerance: ?%; Ratings: 50V; NP0; Operating Temperature: -55蚓 ~ 125蚓; Package / Case: 0402 (1005 Metric); Size / Dimension: 0.039" L x 0.020" W (1.00mm x 0.50mm); Manufacturer 2: Murata Electronics North America; Manufacturer Part Number 2: GRM1555C1H181JA01D; Supplier 1: Digi-Key; Supplier Part Number 1: 478-1085-1-ND; ComponentLink1URL: http://www.avx.com/docs/Catalogs/ccog.pdf; ComponentLink1Description: http://www.avx.com/docs/Catalogs/ccog.pdf; Supplier 2: Digi-Key; Supplier Part Number 2: 490-3231-1-ND; ComponentLink2URL: http://psearch.murata.com/capacitor/product/GRM1555C1H181JA01#.pdf; ComponentLink2Description: http://psearch.murata.com/capacitor/product/GRM1555C1H181JA01#.pdf; Value: 180p
footprint CAPC1005N (Chip Capacitor, Body 1.0x0.5mm, 0402, IPC Medium Density)
pins: 1, 2

## CAPC_180p_1206_NP0_50V
designator C?, comment 180p
Capacitor SMD Cer 180pF 10% 50V NP0 1206; Manufacturer 1: Kemet; Manufacturer Part Number 1: C1206C181K5GACTU; Tolerance: ?0%; Ratings: 50V; NP0; Operating Temperature: -55蚓 ~ 125蚓; Package / Case: 1206 (3216 Metric); Supplier 1: Digi-Key; Supplier Part Number 1: C1206C181K5GACTU-ND; Value: 180p
footprint CAPC3216N (Chip Capacitor, Body 3.2x1.6mm, 1206, IPC Medium Density)
pins: 1, 2

## CAPC_220n_0603
designator C?, comment value 220n  (hidden comment: approved sub OK)
Capacitor SMD Cer 220nF 10% 16V X7R 0603; Manufacturer 1: TDK Corporation; Manufacturer Part Number 1: C1608X7R1C224K; Tolerance: ?0%; Ratings: 16V; X7R; Package / Case: 0603 (1608 metric); Supplier 1: Digi-Key; Supplier Part Number 1: 445-1318-1-ND
footprint CAPC1608N (Chip Capacitor, Body 1.6x0.8mm, 0603, IPC Medium Density)
pins: 1, 2

## CAPC_220n_0805
designator C?, comment value 220n  (hidden comment: approved sub OK)
Capacitor SMD Cer 220nF 10% 25V X7R 0805; Manufacturer 1: Murata Electronics North America; Manufacturer Part Number 1: GRM219R71E224KA01D; Tolerance: ?0%; Ratings: 25V; X7R; Package / Case: 0805 (2012 metric); Supplier 1: Digi-Key; Supplier Part Number 1: 490-1675-1-ND
footprint CAPC2012N (Chip Capacitor, Body 2.0x1.2mm, 0805, IPC Medium Density)
pins: 1, 2

## CAPC_220p_0603_NP0_50V_1%
designator C?, comment Tolerance: ?%  (hidden comment: 220p)
Capacitor SMD Cer 220pF 1% 50V NP0 0603; Manufacturer 1: AVX Corporation; Manufacturer Part Number 1: 06035A221FAT2A; Ratings: 50V; NP0; Operating Temperature: -55蚓 ~ 125蚓; Package / Case: 0603 (1608 Metric); Size / Dimension: 0.063" L x 0.031" W (1.60mm x 0.80mm); Thickness (Max): 0.037" (0.95mm); Manufacturer 2: TDK Corporation; Manufacturer Part Number 2: C1608C0G1H221F080AA; Supplier 1: Digi-Key; Supplier Part Number 1: 478-3719-1-ND; ComponentLink1URL: http://www.avx.com/docs/Catalogs/ccog.pdf; ComponentLink1Description: http://www.avx.com/docs/Catalogs/ccog.pdf; Supplier 2: Digi-Key; Supplier Part Number 2: 445-5369-1-ND; ComponentLink2URL: http://www.tdk.com/pdf/tight_tol_B11.pdf; ComponentLink2Description: http://www.tdk.com/pdf/tight_tol_B11.pdf; Supplier 3: Digi-Key; Supplier Part Number 3: 399-7876-1-ND; Manufacturer 3: Kemet; Manufacturer Part Number 3: C0603C221F5GACTU; ComponentLink3URL: http://www.kemet.com/datasheets&C0603C221F5GACTU; ComponentLink3Description: http://www.kemet.com/datasheets&C0603C221F5GACTU; Value: 220p
footprint CAPC1608N (Chip Capacitor, Body 1.6x0.8mm, 0603, IPC Medium Density)
pins: 1, 2

## CAPC_220p_0603_NP0_50V_5%
designator C?, comment 220p
Capacitor SMD Cer 220pF 5% 50V NP0 0603; Manufacturer 1: Murata Electronics North America; Manufacturer Part Number 1: GRM1885C1H221JA01D; Tolerance: ?%; Ratings: 50V; NP0; Material: Ceramic NP0; Package / Case: 0603 (1608 metric); Supplier 1: Digi-Key; Supplier Part Number 1: 490-1435-1-ND; Value: 220p
footprint CAPC1608N (Chip Capacitor, Body 1.6x0.8mm, 0603, IPC Medium Density)
pins: 1, 2

## CAPC_330n_0805
designator C?, comment value 330n  (hidden comment: approved sub OK)
Capacitor SMD Cer 330nF 10% 25V X7R 0805; Manufacturer: Kemet; Manufacturer Part Number: C0805C334K3RACTU; Tolerance: ?0%; Ratings: 25V; X7R; Material: ceramic; Package / Case: 0805 (2012 metric); Supplier 1: Mouser; Supplier Part Number 1: 80-C0805C334K3R
footprint CAPC2012N (Chip Capacitor, Body 2.0x1.2mm, 0805, IPC Medium Density)
pins: 1, 2

## CAPC_470n_0603
designator C?, comment 470n
Capacitor SMD Cer 470nF 10% 16V X7R 0603; Manufacturer 1: TDK Corporation; Manufacturer Part Number 1: C1608X7R1C474K; Tolerance: ?0%; Ratings: 16V; X7R; Material: ceramic; Manufacturer 2: Murata Electronics North America; Manufacturer Part Number 2: GRM188R71C474KA88D; Package / Case: 0603 (1608 metric); Supplier 1: Digi-Key; Supplier Part Number 1: 490-3295-2-ND; Supplier 2: Digi-Key; Supplier Part Number 2: 445-5192-2-ND; Supplier 3: Digi-Key; Supplier Part Number 3: 587-1250-2-ND; Manufacturer 3: Taiyo Yuden; Manufacturer Part Number 3: EMK107B7474KA-T; Manufacturer 4: Samsung; Manufacturer Part Number 4: CL10B474KONE; Value: 470n
footprint CAPC1608N (Chip Capacitor, Body 1.6x0.8mm, 0603, IPC Medium Density)
pins: 1, 2

## CAPC_470n_0805
designator C?, comment value 470n  (hidden comment: approved sub OK)
Capacitor SMD Cer 470nF 10% 16V X7R 0805; Manufacturer 1: AVX Corporation; Manufacturer Part Number 1: 0805YC474KAT2A; Tolerance: ?0%; Ratings: 16V; X7R; Supplier 1: Digi-Key; Supplier Part Number 1: 478-1403-1-ND; Operating Temperature: -55蚓 ~ 125蚓; Package / Case: 0805 (2012 metric)
footprint CAPC2012N (Chip Capacitor, Body 2.0x1.2mm, 0805, IPC Medium Density)
pins: 1, 2

## CAPC_470p_0603_5%
designator C?, comment value 470p  Tolerance: ?%  (hidden comment: approved sub OK)
Capacitor SMD Cer 470pF 5% 50V NP0 0603; Manufacturer 1: AVX Corporation; Manufacturer Part Number 1: 06035A471JAT2A; Ratings: 50V; NP0; Material: ceramic; Package / Case: 0603 (1608 metric); Supplier 1: Digi-Key; Supplier Part Number 1: 478-1183-1-ND; Capacitance: 470pF; Voltage - Rated: 50V; Mounting Type: Surface Mount, MLCC; Operating Temperature: -55蚓 ~ 125蚓; Applications: General Purpose; Size / Dimension: 0.063" L x 0.032" W (1.60mm x 0.81mm); Height - Seated (Max): -; Thickness (Max): 0.035" (0.90mm); Lead Spacing: -; Lead Style: -; ComponentLink1URL: http://www.avx.com/docs/Catalogs/ccog.pdf; ComponentLink1Description: http://www.avx.com/docs/Catalogs/ccog.pdf
footprint CAPC1608N (Chip Capacitor, Body 1.6x0.8mm, 0603, IPC Medium Density)
pins: 1, 2

## CAPC_560p_0603_5%
designator C?, comment value 560p  Tolerance: ?%  (hidden comment: approved sub OK)
Capacitor SMD Cer 560pF 5% 50V NP0 0603; Manufacturer 1: AVX Corporation; Manufacturer Part Number 1: 06035A561JAT2A; Ratings: 50V; NP0; Material: ceramic; Capacitance: 470pF; Package / Case: 0603 (1608 metric); Voltage - Rated: 50V; Mounting Type: Surface Mount, MLCC; Operating Temperature: -55蚓 ~ 125蚓; Applications: General Purpose; Size / Dimension: 0.063" L x 0.032" W (1.60mm x 0.81mm); Height - Seated (Max): -; Thickness (Max): 0.035" (0.90mm); Lead Spacing: -; Lead Style: -; ComponentLink1URL: http://www.avx.com/docs/Catalogs/ccog.pdf; ComponentLink1Description: http://www.avx.com/docs/Catalogs/ccog.pdf; Supplier 1: Digi-Key; Supplier Part Number 1: 478-1184-1-ND
footprint CAPC1608N (Chip Capacitor, Body 1.6x0.8mm, 0603, IPC Medium Density)
pins: 1, 2

## CAPF_15n_1210_PPS_50V
designator C?, comment value 15n  Tolerance: ?%  (hidden comment: Polyphenylene Sulphide (PPS))
Capacitor SMD PPS Film 15nF 2% 50V 1210; Manufacturer 1: Panasonic - ECG; Manufacturer Part Number 1: ECH-U1H153GX5; Ratings: 50 V; PPS Film; Package / Case: 1210 (3225 Metric); Material: Polyphenylene Sulphide (PPS); Supplier 1: Digi-Key; Supplier Part Number 1: PCF1310CT-ND; Voltage Rating - DC: 50V; Operating Temperature: -55蚓 ~ 125蚓; Mounting Type: Surface Mount; ComponentLink1URL: http://industrial.panasonic.com/www-cgi/jvcr13pz.cgi?E+PZ+3+ABD0013+ECHU1H153GX5+7+WW; ComponentLink1Description: http://industrial.panasonic.com/www-cgi/jvcr13pz.cgi?E+PZ+3+ABD0013+ECHU1H153GX5+7+WW; Height - Seated (Max): 0.051" (1.30mm)
footprint CAPC3225N (Chip Capacitor, Body 3.2x2.5mm, 1210, IPC Medium Density)
pins: 1, 2

## CAPR_220n_Radial_5mm
designator C?, comment value 220n  (hidden comment: approved sub OK)
Capacitor Ceramic 220nF 10% 50V X7R radial 5mm lead spacing; Manufacturer 1: TDK Corporation; Manufacturer Part Number 1: FK24X7R1H224K; Tolerance: ?0%; Ratings: 50V; X7R; Material: ceramic; Supplier 1: Digi-Key; Supplier Part Number 1: 445-2855-ND; Package / Case: 0.217" L x 0.177" W (5.50mm x 4.50mm) radial 5mm LS; Operating Temperature: -55蚓 ~ 125蚓; ComponentLink1URL: http://www.tdk.co.jp/tefe02/e4941_fk.pdf; ComponentLink1Description: e4941_fk datasheet
footprint CAPC2012N (Chip Capacitor, Body 2.0x1.2mm, 0805, IPC Medium Density)
pins: 1, 2

## CAPT_1u_0805_10V
designator C?
Capacitor SMD Tantalum 1uF 20% 10V 0805; Manufacturer 1: AVX Corporation; Manufacturer Part Number 1: TAJP106M010RNJ; Manufacturer Size Code: P; Tolerance: ?0%; ESR (Equivalent Series Resistance): 6.000 Ohm; Type: Molded; Package / Case: 0805 (2012 metric); Material: Tantalum; Supplier 1: Digi-Key; Supplier Part Number 1: 478-3281-1-ND; Operating Temperat: -55蚓 ~ 125蚓; Size / Dimension: 0.081" L x 0.053" W (2.05mm x 1.35mm); Height - Seated (Max): 0.059" (1.50mm); ComponentLink1URL: http://www.avx.com/docs/Catalogs/tajlp.pdf; ComponentLink1Description: http://www.avx.com/docs/Catalogs/tajlp.pdf
footprint CAPMP2012X150USR (Molded body capacitor, Body 2.0x1.2mm, 0805, IPC Medium Density)
pins: 1, 2

## CAPT_1u_0805_10V_1
designator C?, comment Ratings: 10V  (hidden comment: 1?)
Capacitor SMD Tantalum 1uF 20% 10V 0805; Manufacturer 1: AVX Corporation; Manufacturer Part Number 1: TAJP106M010RNJ; Manufacturer Size Code: P; Tolerance: ?0%; ESR (Equivalent Series Resistance): 6.000 Ohm; Type: Molded; Package / Case: 0805 (2012 metric); Material: Tantalum; Supplier 1: Digi-Key; Supplier Part Number 1: 478-3281-1-ND; Operating Temperature: -55蚓 ~ 125蚓; Size / Dimension: 0.081" L x 0.053" W (2.05mm x 1.35mm); Height - Seated (Max): 0.059" (1.50mm); ComponentLink1URL: http://www.avx.com/docs/Catalogs/tajlp.pdf; ComponentLink1Description: http://www.avx.com/docs/Catalogs/tajlp.pdf; Value: 1?
footprint CAPMP2012X150USR (Molded body capacitor, Body 2.0x1.2mm, 0805, IPC Medium Density)
pins: 1, 2

## CAPT_1u_6032_50V
designator C?, comment 1?
Capacitor SMD Tantalum 1uF 10% 50V EIA 6032-28; Manufacturer: Vishay/Sprague; Manufacturer Part Number: 293D105X9050C2TE3; Tolerance: ?0%; Package / Case: EIA 6032-28; Ratings: 50V; Material: Tantalum; Supplier 1: Digi-Key; Supplier Part Number 1: 718-1041-1-ND; Value: 1?
footprint CAPMP6032X280N (Capacitor, polarized, Molded Body, EIA 535BAAC size C; 6.00mm L X 3.20mm W X 2.80mm H)
pins: 1, 2

## CAPT_4u7_3216_16V
designator C?, comment 4?
Capacitor SMD Tantalum 4.7uF 10% 16V 3216-18; Manufacturer 1: Vishay/Sprague; Manufacturer Part Number 1: 293D475X9016A2TE3; Tolerance: ?0%; Package / Case: EIA 535BAAC size A; Ratings: 16V; Material: Tantalum; Supplier 1: Digi-Key; Supplier Part Number 1: 718-1148-1-ND; Value: 4?
footprint CAPMP3216X180N (Capacitor, polarized, Molded Body, EIA 535BAAC size A; 3.20mm L X 1.60mm W X 1.80mm H)
pins: 1, 2

## CAPT_10u_0805_10V
designator C?, comment Ratings: 10V  (hidden comment: 10?)
Capacitor SMD Tantalum 10uF 20% 10V 0805; Manufacturer 1: AVX Corporation; Manufacturer Part Number 1: TAJP106M010RNJ; Tolerance: ?0%; Package / Case: 0805 (2012 metric); Material: Tantalum; Supplier 1: Digi-Key; Supplier Part Number 1: 478-3281-1-ND; Value: 10?
footprint CAPMP2012X150USR (Molded body capacitor, Body 2.0x1.2mm, 0805, IPC Medium Density)
pins: 1, 2

## CAPT_10u_6032_16V
designator C?, comment 10?
Capacitor SMD Tantalum 10uF 20% 16V EIA 6032-28; Manufacturer 1: Vishay/Sprague; Manufacturer Part Number 1: 293D106X0016C2TE3; Tolerance: ?0%; Package / Case: EIA 6032-28; Ratings: 16V; Material: Tantalum; Supplier 1: Digi-Key; Supplier Part Number 1: 718-1042-1-ND; Value: 10?
footprint CAPMP6032X280N (Capacitor, polarized, Molded Body, EIA 535BAAC size C; 6.00mm L X 3.20mm W X 2.80mm H)
pins: 1, 2

## CAPT_22u_3216_6V3
designator C?, comment 22?
Capacitor SMD Tantalum 22uF 10% 6.3V 3216-18; Manufacturer 1: Kemet; Manufacturer Part Number 1: T491A226K006AT; Tolerance: ?0%; Material: Solid Tantalum; Package / Case: EIA 535BAAC size A; Ratings: 6.3V; Link: http://www.kemet.com/kemet/web/homepage/kechome.nsf/file/T491%20Series/$file/F3102_T491.pdf; Value: 22?
footprint CAPMP3216X180N (Capacitor, polarized, Molded Body, EIA 535BAAC size A; 3.20mm L X 1.60mm W X 1.80mm H)
pins: 1, 2

## CAPT_33u_3216_6V3
designator C?, comment 33?
Capacitor SMD Tantalum 33uF 10% 6.3V 3216-18; Manufacturer 1: Kemet; Manufacturer Part Number 1: T491A336K006AT; Tolerance: ?0%; Material: Solid Tantalum; Package / Case: EIA 535BAAC size A; Ratings: 6.3V; Link: http://www.kemet.com/kemet/web/homepage/kechome.nsf/file/T491%20Series/$file/F3102_T491.pdf; Value: 33?
footprint CAPMP3216X180N (Capacitor, polarized, Molded Body, EIA 535BAAC size A; 3.20mm L X 1.60mm W X 1.80mm H)
pins: 1, 2

## CAPT_47u_1210_6V3
designator C?, comment Ratings: 6.3V  (hidden comment: 47?)
Capacitor SMD Tantalum 47uF 20% 6.3V 1210; Manufacturer 1: AVX Corporation; Manufacturer Part Number 1: TCJB476M006R0070; Manufacturer Size Code: B; Tolerance: ?0%; Voltage - Rated: 6V3; ESR (Equivalent Series Resistance): 70.0 mOhm; Type: Molded; Package / Case: 1210 (3528 Metric); Material: Tantalum; Supplier 1: Digi-Key; Supplier Part Number 1: 478-3139-1-ND; Operating Temperature: -55蚓 ~ 125蚓; Size / Dimension: 0.138" L x 0.110" W (3.50mm x 2.80mm); Height - Seated (Max): 0.083" (2.10mm); ComponentLink1URL: http://www.avx.com/docs/Catalogs/tcj.pdf; ComponentLink1Description: http://www.avx.com/docs/Catalogs/tcj.pdf; Value: 47?
footprint CAPMP3528X210N (Molded body capacitor, Body 3.5x2.8mm, 1210, IPC Nominal settings)
pins: 1, 2

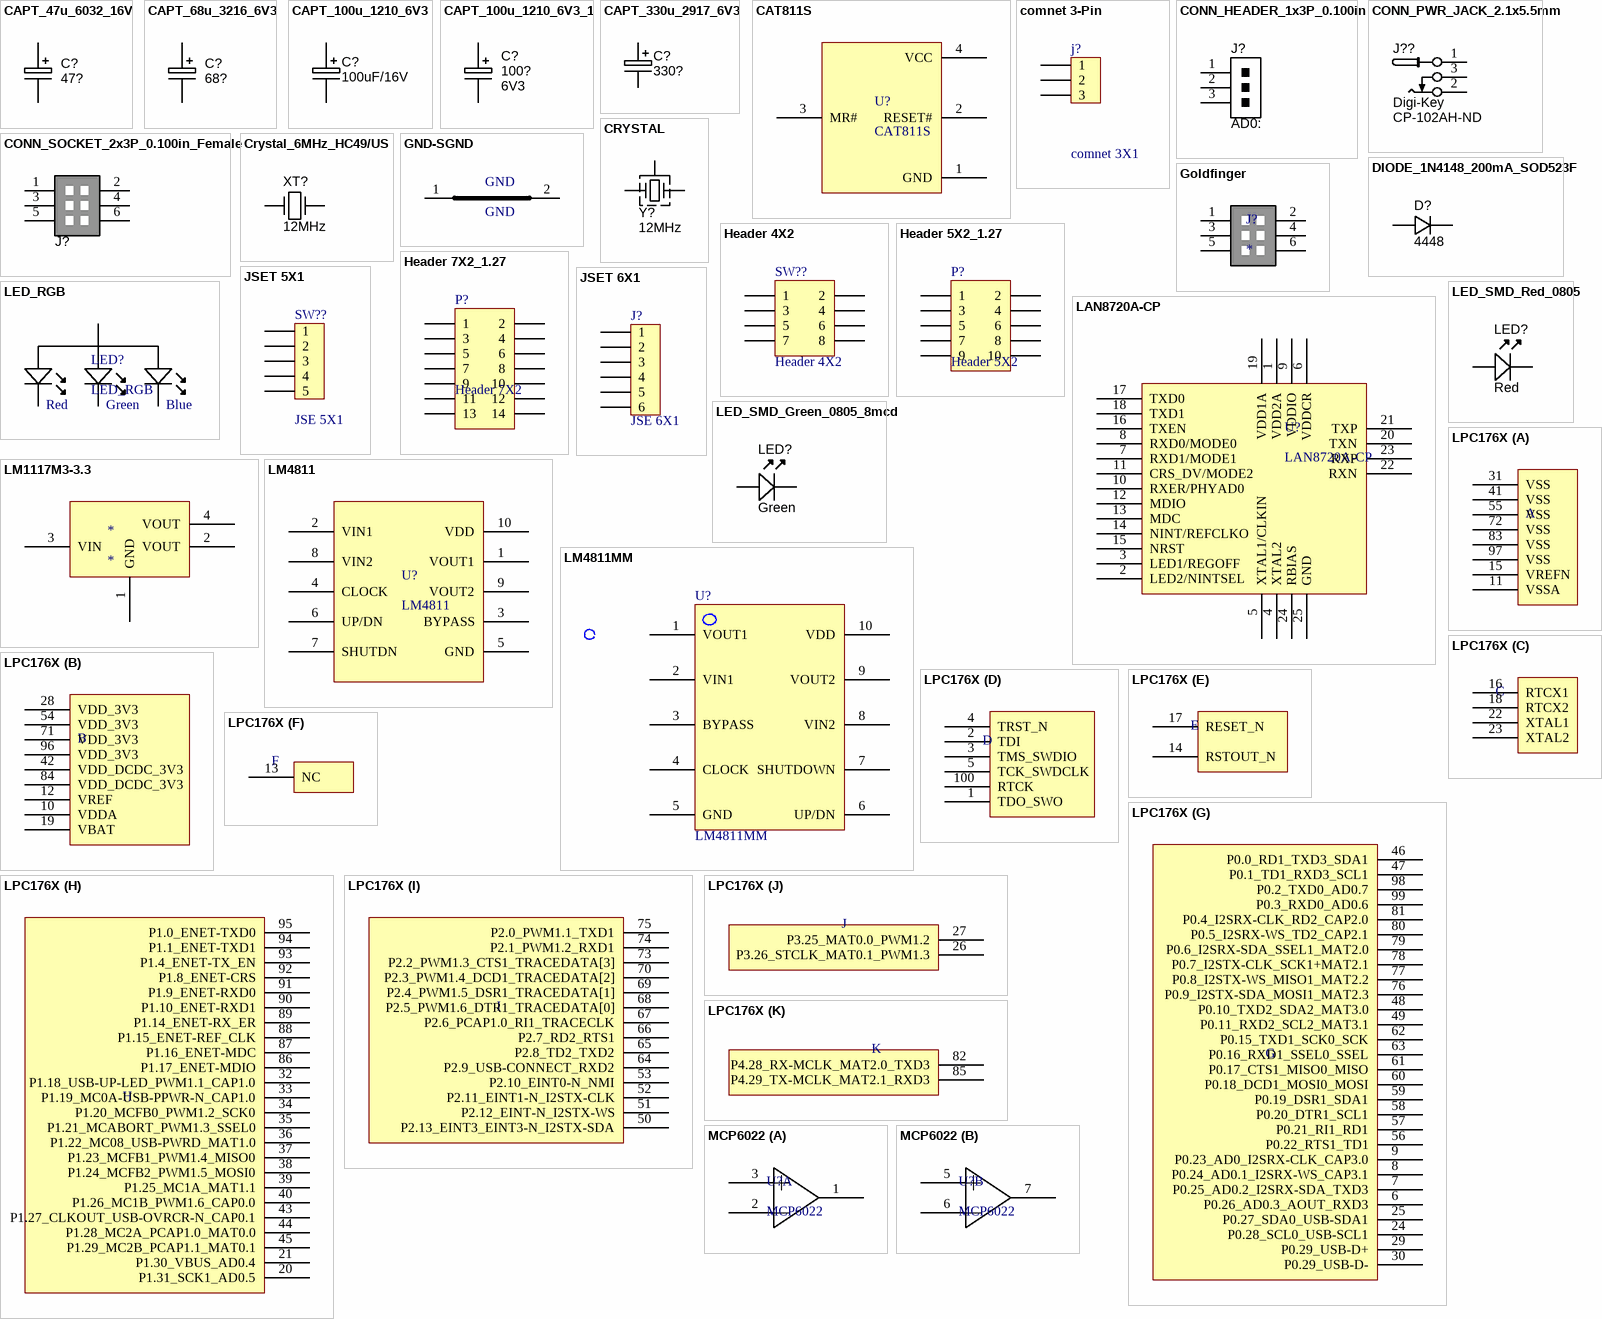
[diagram p2: symbols CAPT_47u_6032_16V to MCP6022]

## CAPT_47u_6032_16V
designator C?, comment 47?
Capacitor SMD Tantalum 47uF 10% 16V 6032-28; Manufacturer 1: Vishay/Sprague; Manufacturer Part Number 1: TR3C476K016C0300; Tolerance: ?0%; Package / Case: EIA 535BAAC size C; Ratings: 16V; Material: Tantalum; Supplier 1: Digi-Key; Supplier Part Number 1: 718-1332-1-ND; Value: 47?
footprint CAPMP6032X280N (Capacitor, polarized, Molded Body, EIA 535BAAC size C; 6.00mm L X 3.20mm W X 2.80mm H)
pins: 1, 2

## CAPT_68u_3216_6V3
designator C?, comment 68?
Capacitor SMD Tantalum 68uF 10% 6.3V EIA 3216-18; Manufacturer 1: Kemet; Manufacturer Part Number 1: T491A686K006AT; Manufacturer Size Code: A; Tolerance: ?0%; Material: Solid Tantalum; ESR (Equivalent Series Resistance): 4.000 Ohm; Package / Case: 1206 (3216 Metric); Ratings: 6.3V; Supplier 1: Digi-Key; Supplier Part Number 1: 399-4698-1-ND; Operating Temperature: -55蚓 ~ 125蚓; Size / Dimension: 0.126" L x 0.063" W (3.20mm x 1.60mm); Height - Seated (Max): 0.071" (1.80mm); ComponentLink1URL: http://www.kemet.com/datasheets&T491A686K006AT; ComponentLink1Description: http://www.kemet.com/datasheets&T491A686K006AT; Value: 68?
footprint CAPMP3216X180N (Capacitor, polarized, Molded Body, EIA 535BAAC size A; 3.20mm L X 1.60mm W X 1.80mm H)
pins: 1, 2

## CAPT_100u_1210_6V3
designator C?
Capacitor SMD Tantalum 100uF 20% 6.3V 1210; Manufacturer 1: AVX Corporation; Manufacturer Part Number 1: TCJB107M006R0045; Tolerance: ?0%; Package / Case: 1210 (3528 Metric); Material: Tantalum; Supplier 1: Digi-Key; Supplier Part Number 1: 478-4711-1-ND
footprint CAPMP3528X210N (Molded body capacitor, Body 3.5x2.8mm, 1210, IPC Nominal settings)
pins: 1, 2
text: 100uF/16V

## CAPT_100u_1210_6V3_1
designator C?, comment Ratings: 6V3  (hidden comment: 100?)
Capacitor SMD Tantalum 100uF 20% 6.3V 1210; Manufacturer 1: AVX Corporation; Manufacturer Part Number 1: TCJB107M006R0045; Tolerance: ?0%; Package / Case: 1210 (3528 Metric); Material: Tantalum; Supplier 1: Digi-Key; Supplier Part Number 1: 478-4711-1-ND; Value: 100?
footprint CAPMP3528X210N (Molded body capacitor, Body 3.5x2.8mm, 1210, IPC Nominal settings)
pins: 1, 2

## CAPT_330u_2917_6V3
designator C?, comment 330?
Capacitor SMD Tant 330uF 20% 6V3 2917; Manufacturer Size Code: D; Manufacturer Part Number: T520D337M006ATE015; Ratings: 6.3V; Tolerance: ?0%; Material: Solid Tantalum; ESR (Equivalent Series Resistance): 15 mOhm; Package / Case: 2917 (7343 Metric); Operating Temperature: -55蚓 ~ 125蚓; Size / Dimension: 0.287" L x 0.169" W (7.30mm x 4.30mm); Height - Seated (Max): 0.122" (3.10mm); Supplier 1: Digi-Key; Supplier Part Number 1: 399-4052-1-ND; ComponentLink1URL: http://www.kemet.com/datasheets&T520D337M006ATE015; ComponentLink1Description: T520D Datasheet; Value: 330?
footprint CAPMP7343X310N (Molded body capacitor, Body 7.3x4.3mm, 2917, IPC Nominal settings)
pins: 1, 2

## CAT811S
designator U?
footprint SOT-143-R (SOT-143; 4 Leads; Body 3 x 2.6 mm, inc. leads (LxW max))
pins: 1 GND, 2 RESET#, 3 MR#, 4 VCC

## comnet 3-Pin
designator j?, comment comnet 3X1
comnet , 3-Pin, 2mm Dual row; LatestRevisionDate: 17-Jul-2002; LatestRevisionNote: Re-released for DXP Platform.; Publisher: Altium Limited
footprint Comnet 3X1 (Connector; Comnet  ; 3X1 Position)
pins: 1, 2, 3

## CONN_HEADER_1x3P_0.100in
designator J?  (value not drawn)
Pin Header, THT, Single-row, 2.54mm pitch; Manufacturer 1: 3M; Manufacturer Part Number 1: 929647-09-36-I; Pitch: 0.100" (2.54mm); Value: Single-row, 3 positions; QtyOverride: 0.1; Category: Connectors; Mounting Type: Through Hole; Terminal Block Type: Header, Male Pins, Single; Package / Case: Pin header; 2.54mm pitch
footprint 1x3POS_HEADER (Connector Header, Single-row 3-position, 0.100" pitch)
pins: 1, 2, 3

## CONN_PWR_JACK_2.1x5.5mm
designator J??  Supplier 1: Digi-Key  Supplier Part Number 1: CP-102AH-ND  (hidden comment: CONN_PWR_JACK_2.1x5.5mm)
Power Connector, THT, 2.1mm ID, 5.5mm OD; Manufacturer 1: CUI Inc; Manufacturer Part Number 1: PJ-102AH; Category: Connectors; Mounting Type: Through Hole; Package / Case: PCB mount; Value: 2.1mm ID, 5.5mm OD
footprint CONN_PWR_JACK_2.1x5.5mm (Power Connector, 2.1mm ID, 5.5mm OD)
pins: 1, 2, 3

## CONN_SOCKET_2x3P_0.100in_Female
designator J?, comment micro-match socket  (value not drawn)
Socket THD 6 POS Double-row 2.54mm pitch; Manufacturer 1: TE Connectivity; Manufacturer Part Number 1: 7-215079-6; Pitch: 0.100" (2.54mm); Value: Double-row, 14 positions; QtyOverride: 1; Connector Type: Receptacle; Number of Positions: 6; Package / Case: Connector header; 2.54mm pitch; Contact Type: Female Socket; Number of Rows: 2; Row Spacing: 0.100" (2.54mm); Contact Mating Length: 0.243" (6.17mm); ComponentLink1URL: http://multimedia.3m.com/mws/mediawebserver?66666UuZjcFSLXTtm8T_oxMcEVuQEcuZgVs6EVs6E666666--; ComponentLink1Description: http://multimedia.3m.com/mws/mediawebserver?66666UuZjcFSLXTtm8T_oxMcEVuQEcuZgVs6EVs6E666666--; Supplier 1: Digi-Key; Supplier Part Number 1: A30729CT-ND
footprint 6P_PCB_SOCKET_BRD_MNT_MICRO-MATCH (SOCKET MICRO-MATCH BRD MNT 6POS 2.54MM)
pins: 1, 2, 3, 4, 5, 6

## CRYSTAL
designator Y?, comment 12MHz
Oscillator Crystal; Manufacturer 1: TXC CORPORATION; Manufacturer Part Number 1: 7M-27.120MEEQ-T; Ratings: 4.9152 MHz Crystal; Frequency Stability: ?0ppm; Load Capacitance: 10pF; Operating Mode: Fundamental; Package / Case: 2.5mm pitch; Material: Ceramic; Supplier 1: Digi-Key; Supplier Part Number 1: 887-1329-1-ND; Type: MHz Crystal; Frequency Tolerance: ?0ppm; Operating Temperature: -20蚓 ~ 70蚓; Mounting Type: Surface Mount; Size / Dimension: 0.126" L x 0.098" W (3.20mm x 2.50mm); ComponentLink1URL: http://www.txccrystal.com/images/pdf/7m-accuracy.pdf; ComponentLink1Description: http://www.txccrystal.com/images/pdf/7m-accuracy.pdf
footprint 9HT7-32.768KDZF-T
pins: 1 X, 2 GND, 3 GND, 4 X